# Altium integrated library XH，VH.IntLib: 26 symbols
Pins are listed as number, name and electrical type; pins without a type are passive.

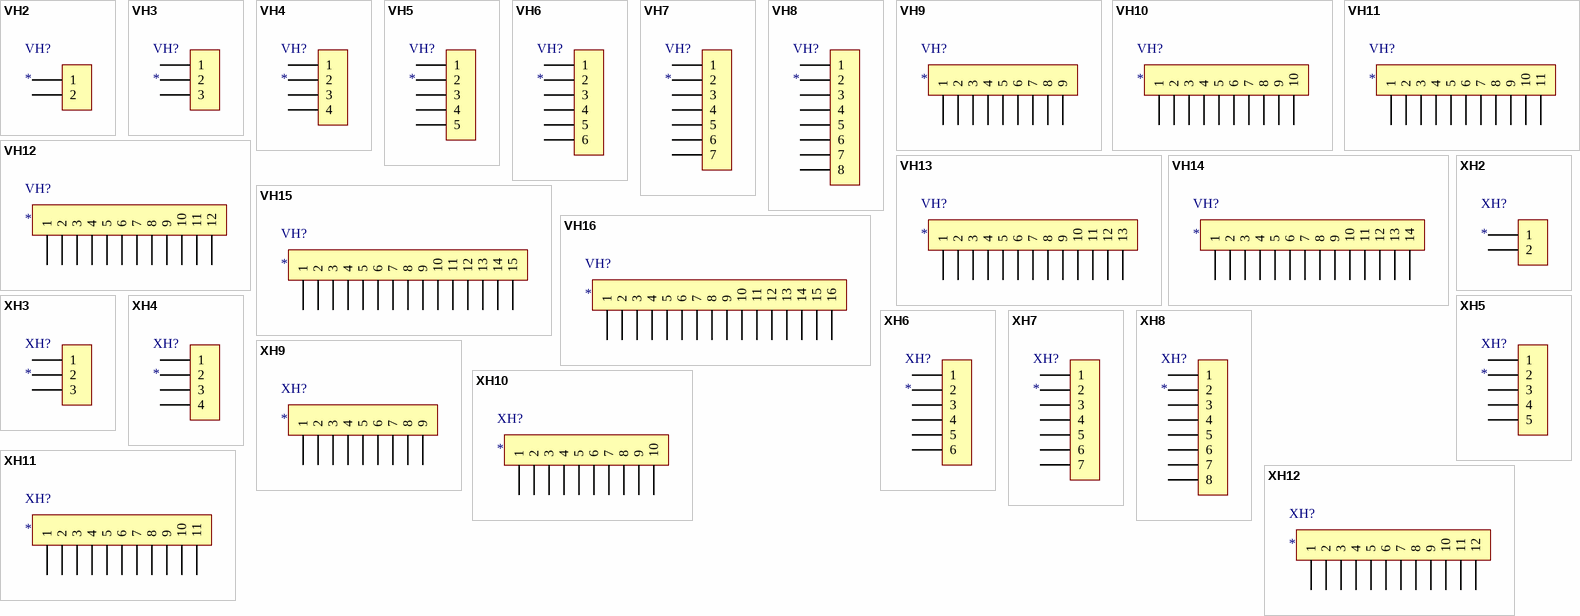
[diagram p0: symbols VH2 to XH12]

## VH2
designator VH?
VH3.96连接器母座
footprint VH3.96-2A
footprint VH3.96-2AW
footprint VH3.96-2AWD
pins: 1, 2

## VH3
designator VH?
VH3.96连接器母座
footprint VH3.96-3A
footprint VH3.96-3AW
footprint VH3.96-3AWD
pins: 1, 2, 3

## VH4
designator VH?
VH3.96连接器母座
footprint VH3.96-4A
footprint VH3.96-4AW
footprint VH3.96-4AWD
pins: 1, 2, 3, 4

## VH5
designator VH?
VH3.96连接器母座
footprint VH3.96-5A
footprint VH3.96-5AW
footprint VH3.96-5AWD
pins: 1, 2, 3, 4, 5

## VH6
designator VH?
VH3.96连接器母座
footprint VH3.96-6A
footprint VH3.96-6AW
footprint VH3.96-6AWD
pins: 1, 2, 3, 4, 5, 6

## VH7
designator VH?
VH3.96连接器母座
footprint VH3.96-7A
footprint VH3.96-7AW
footprint VH3.96-7AWD
pins: 1, 2, 3, 4, 5, 6, 7

## VH8
designator VH?
VH3.96连接器母座
footprint VH3.96-8A
footprint VH3.96-8AW
footprint VH3.96-8AWD
pins: 1, 2, 3, 4, 5, 6, 7, 8

## VH9
designator VH?
VH3.96连接器母座
footprint VH3.96-9A
footprint VH3.96-9AW
footprint VH3.96-9AWD
pins: 1, 2, 3, 4, 5, 6, 7, 8, 9

## VH10
designator VH?
VH3.96连接器母座
footprint VH3.96-10A
footprint VH3.96-10AW
footprint VH3.96-10AWD
pins: 1, 2, 3, 4, 5, 6, 7, 8, 9, 10

## VH11
designator VH?
VH3.96连接器母座
footprint VH3.96-11A
footprint VH3.96-11AW
footprint VH3.96-11AWD
pins: 1, 2, 3, 4, 5, 6, 7, 8, 9, 10, 11

## VH12
designator VH?
VH3.96连接器母座
footprint VH3.96-12A
footprint VH3.96-12AW
footprint VH3.96-12AWD
pins: 1, 2, 3, 4, 5, 6, 7, 8, 9, 10, 11, 12

## VH13
designator VH?
VH3.96连接器母座
footprint VH3.96-13A
footprint VH3.96-13AW
footprint VH3.96-13AWD
pins: 1, 2, 3, 4, 5, 6, 7, 8, 9, 10, 11, 12, 13

## VH14
designator VH?
VH3.96连接器母座
footprint VH3.96-14A
footprint VH3.96-14AW
footprint VH3.96-14AWD
pins: 1, 2, 3, 4, 5, 6, 7, 8, 9, 10, 11, 12, 13, 14

## VH15
designator VH?
VH3.96连接器母座
footprint VH3.96-15A
footprint VH3.96-15AW
footprint VH3.96-15AWD
pins: 1, 2, 3, 4, 5, 6, 7, 8, 9, 10, 11, 12, 13, 14, 15

## VH16
designator VH?
VH3.96连接器母座
footprint VH3.96-16A
footprint VH3.96-16AW
footprint VH3.96-16AWD
pins: 1, 2, 3, 4, 5, 6, 7, 8, 9, 10, 11, 12, 13, 14, 15, 16

## XH2
designator XH?
XH2.54连接器母座
footprint XH2/2.54mm/90
footprint XH2/2.54mm/180
pins: 1, 2

## XH3
designator XH?
XH2.54连接器母座
footprint XH3/2.54mm/90
footprint XH3/2.54mm/180
pins: 1, 2, 3

## XH4
designator XH?
XH2.54连接器母座
footprint XH4/2.54mm/90
footprint XH4/2.54mm/180
pins: 1, 2, 3, 4

## XH5
designator XH?
XH2.54连接器母座
footprint XH5/2.54mm/90
footprint XH5/2.54mm/180
pins: 1, 2, 3, 4, 5

## XH6
designator XH?
XH2.54连接器母座
footprint XH6/2.54mm/90
footprint XH6/2.54mm/180
pins: 1, 2, 3, 4, 5, 6

## XH7
designator XH?
XH2.54连接器母座
footprint XH7/2.54mm/90
footprint XH7/2.54mm/180
pins: 1, 2, 3, 4, 5, 6, 7

## XH8
designator XH?
XH2.54连接器母座
footprint XH8/2.54mm/90
footprint XH8/2.54mm/180
pins: 1, 2, 3, 4, 5, 6, 7, 8

## XH9
designator XH?
XH2.54连接器母座
footprint XH9/2.54mm/90
footprint XH9/2.54mm/180
pins: 1, 2, 3, 4, 5, 6, 7, 8, 9

## XH10
designator XH?
XH2.54连接器母座
footprint XH10/2.54mm/90
footprint XH10/2.54mm/180
pins: 1, 2, 3, 4, 5, 6, 7, 8, 9, 10

## XH11
designator XH?
XH2.54连接器母座
footprint XH11/2.54mm/90
footprint XH11/2.54mm/180
pins: 1, 2, 3, 4, 5, 6, 7, 8, 9, 10, 11

## XH12
designator XH?
XH2.54连接器母座
footprint XH12/2.54mm/90
footprint XH12/2.54mm/180
pins: 1, 2, 3, 4, 5, 6, 7, 8, 9, 10, 11, 12